# EAGLE library part LTC3205 (library PowerProducts)
LT-Spice library generated with : ltspice.ulp from: D:/Program Files (x86)/LTC/LTspiceIV/lib/sym/PowerProducts/LTC3210-1*.asy at 07.10.2012 17:20:15
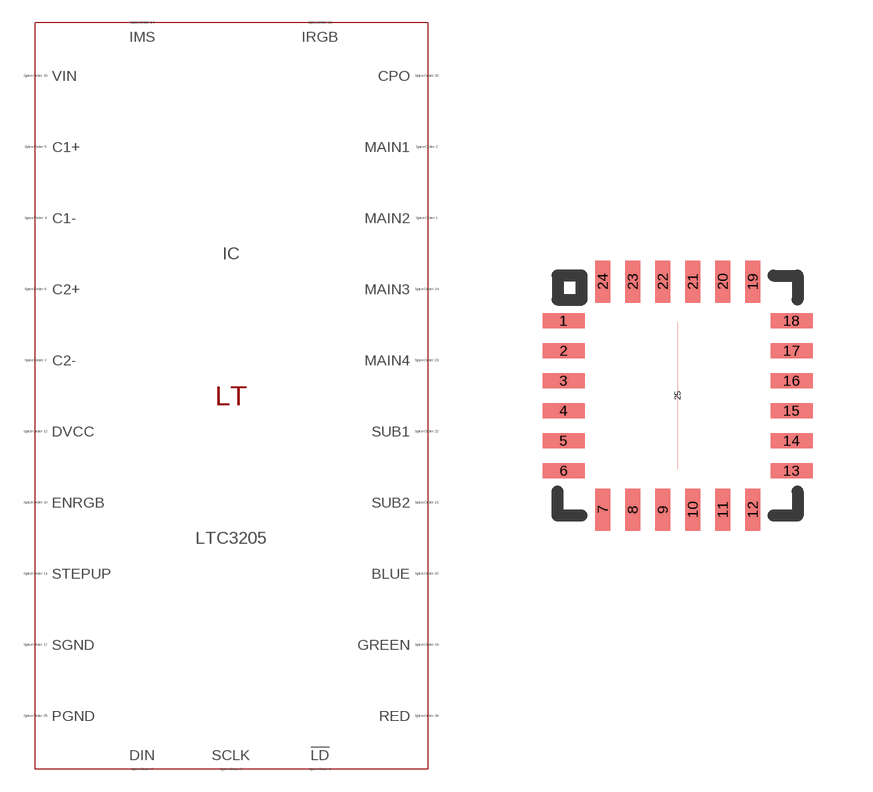
[diagram p135: symbol with the pads of QFN24(UF); footprint QFN24(UF)]

Designator prefix IC

## LTC3205 (SPICEMODEL: LTC3205.sub; SPICEPREFIX: X; VALUE2: LTC3205)  [QFN24(UF)]
1  MAIN2  pas
2  MAIN1  pas
3  C2-  pas
4  C1-  pas
5  C1+  pas
6  C2+  pas
7  DIN  pas
8  SCLK  pas
9  !LD  pas
10  ENRGB  pas
11  STEPUP  pas
12  DVCC  pas
13  IRGB  pas
14  IMS  pas
15  CPO  pas
16  VIN  pas
17  SGND  pas
18  RED  pas
19  GREEN  pas
20  BLUE  pas
21  SUB2  pas
22  SUB1  pas
23  MAIN4  pas
24  MAIN3  pas
25  PGND  pas

## Footprint QFN24(UF) (pad centres in mm)
Package generated from: QFN24(UF).asc (!PADS-POWERPCB-V5.0-BASIC! DESIGN DATABASE ASCII FILE 1.0) with :import-pads-powerpcb-v5.ulp Version 1.0.1 at 04.10.2012 14:11:24
smd 1.05 x 0.375: 1 -2.85,1.875; 2 -2.85,1.125; 3 -2.85,0.375; 4 -2.85,-0.375; 5 -2.85,-1.125; 6 -2.85,-1.875; 13 2.85,-1.875; 14 2.85,-1.125; 15 2.85,-0.375; 16 2.85,0.375; 17 2.85,1.125; 18 2.85,1.875
smd 0.375 x 1.05: 7 -1.875,-2.85; 8 -1.125,-2.85; 9 -0.375,-2.85; 10 0.375,-2.85; 11 1.125,-2.85; 12 1.875,-2.85; 19 1.875,2.85; 20 1.125,2.85; 21 0.375,2.85; 22 -0.375,2.85; 23 -1.125,2.85; 24 -1.875,2.85
smd 0 x 3.675: 25 0,0